# Altium schematic symbol library SCH - MCU - ATSAM - MICROCHIP ATSAMS70Q20B-CFN UFBGA144.SchLib: 1 symbol
Pins are listed as number, name and electrical type; pins without a type are passive.

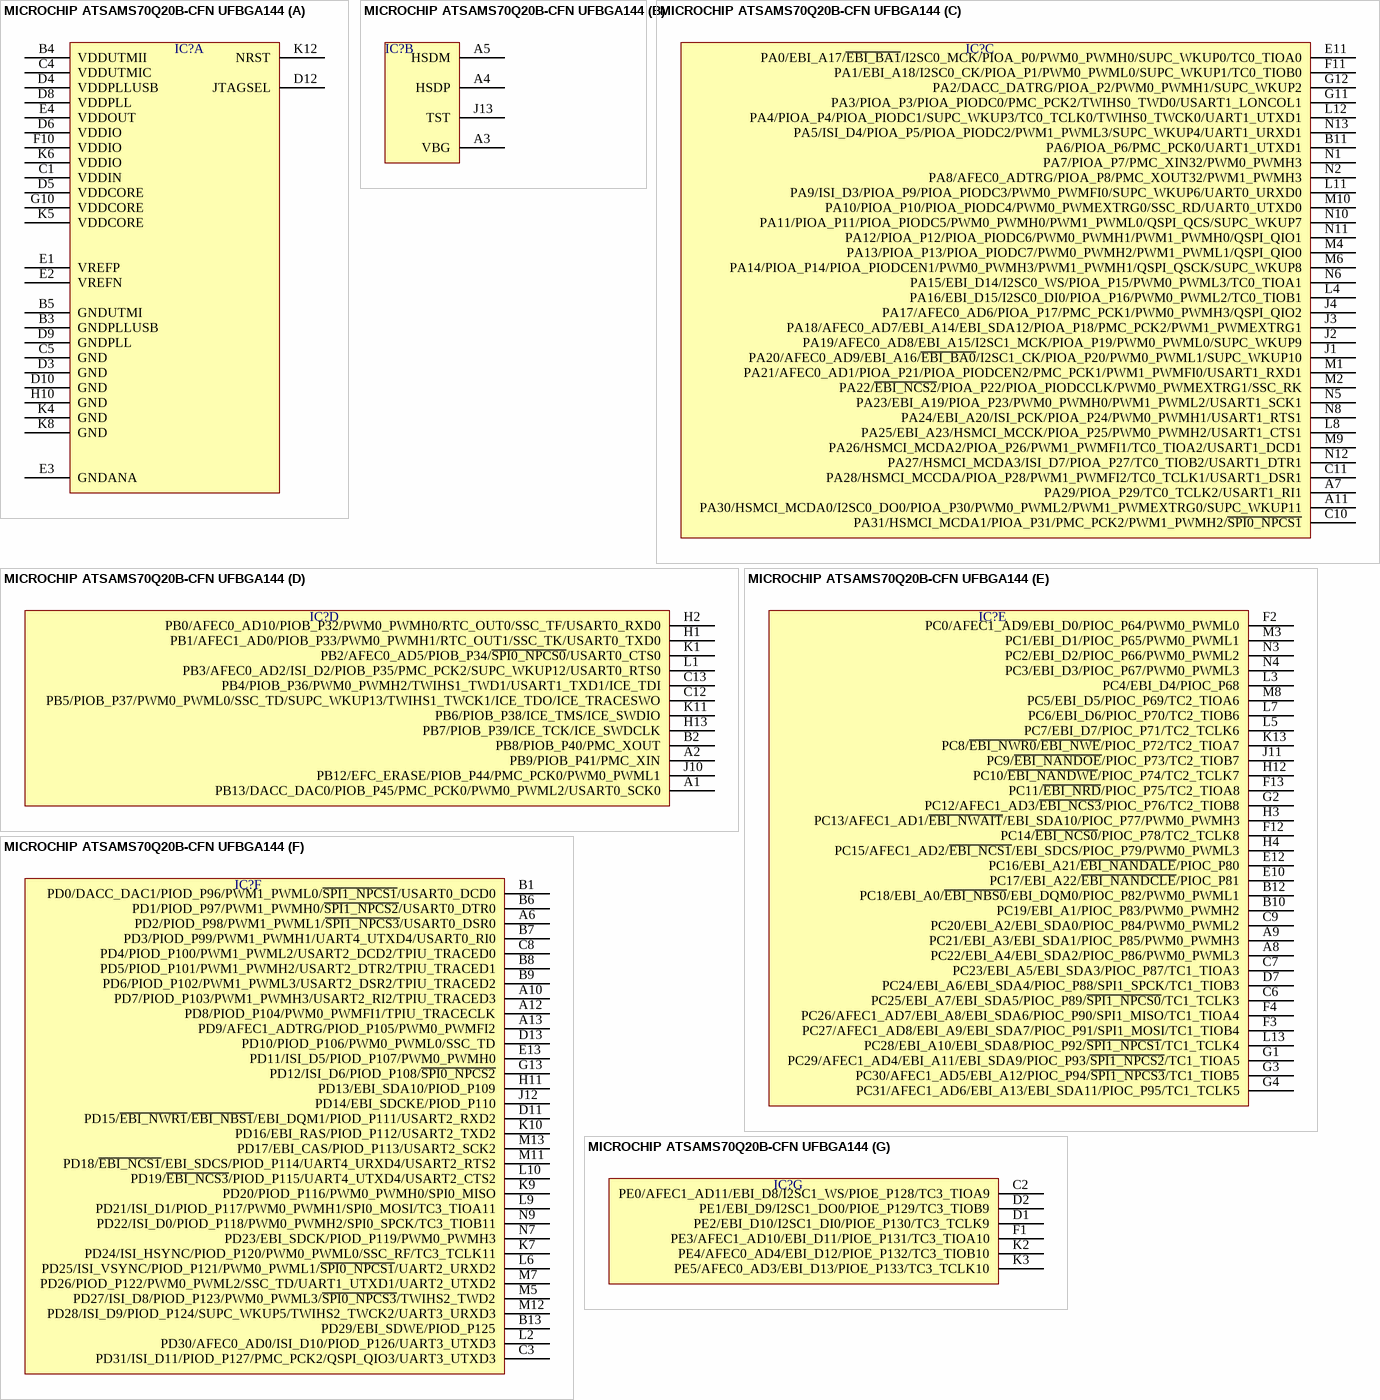
[diagram p0: symbol MICROCHIP ATSAMS70Q20B-CFN UFBGA144]

## MICROCHIP ATSAMS70Q20B-CFN UFBGA144
designator IC?  (value not drawn)
part A pins: B3 GNDPLLUSB, B4 VDDUTMII, B5 GNDUTMI, C1 VDDIN, C4 VDDUTMIC, C5 GND, D3 GND, D4 VDDPLLUSB, D5 VDDCORE, D6 VDDIO, D8 VDDPLL, D9 GNDPLL, D10 GND, D12 JTAGSEL, E1 VREFP, E2 VREFN, E3 GNDANA, E4 VDDOUT, F10 VDDIO, G10 VDDCORE, H10 GND, K4 GND, K5 VDDCORE, K6 VDDIO, K8 GND, K12 NRST
part B pins: A3 VBG, A4 HSDP, A5 HSDM, J13 TST
part C pins: A7 PA29/PIOA_P29/TC0_TCLK2/USART1_RI1, A11 PA30/HSMCI_MCDA0/I2SC0_DO0/PIOA_P30/PWM0_PWML2/PWM1_PWMEXTRG0/SUPC_WKUP11, B11 PA6/PIOA_P6/PMC_PCK0/UART1_UTXD1, C10 PA31/HSMCI_MCDA1/PIOA_P31/PMC_PCK2/PWM1_PWMH2/~{SPI0_NPCS1}, C11 PA28/HSMCI_MCCDA/PIOA_P28/PWM1_PWMFI2/TC0_TCLK1/USART1_DSR1, E11 PA0/EBI_A17/~{EBI_BA1}/I2SC0_MCK/PIOA_P0/PWM0_PWMH0/SUPC_WKUP0/TC0_TIOA0, F11 PA1/EBI_A18/I2SC0_CK/PIOA_P1/PWM0_PWML0/SUPC_WKUP1/TC0_TIOB0, G11 PA3/PIOA_P3/PIOA_PIODC0/PMC_PCK2/TWIHS0_TWD0/USART1_LONCOL1, G12 PA2/DACC_DATRG/PIOA_P2/PWM0_PWMH1/SUPC_WKUP2, J1 PA20/AFEC0_AD9/EBI_A16/~{EBI_BA0}/I2SC1_CK/PIOA_P20/PWM0_PWML1/SUPC_WKUP10, J2 PA19/AFEC0_AD8/EBI_A15/I2SC1_MCK/PIOA_P19/PWM0_PWML0/SUPC_WKUP9, J3 PA18/AFEC0_AD7/EBI_A14/EBI_SDA12/PIOA_P18/PMC_PCK2/PWM1_PWMEXTRG1, J4 PA17/AFEC0_AD6/PIOA_P17/PMC_PCK1/PWM0_PWMH3/QSPI_QIO2, L4 PA16/EBI_D15/I2SC0_DI0/PIOA_P16/PWM0_PWML2/TC0_TIOB1, L8 PA25/EBI_A23/HSMCI_MCCK/PIOA_P25/PWM0_PWMH2/USART1_CTS1, L11 PA9/ISI_D3/PIOA_P9/PIOA_PIODC3/PWM0_PWMFI0/SUPC_WKUP6/UART0_URXD0, L12 PA4/PIOA_P4/PIOA_PIODC1/SUPC_WKUP3/TC0_TCLK0/TWIHS0_TWCK0/UART1_UTXD1, M1 PA21/AFEC0_AD1/PIOA_P21/PIOA_PIODCEN2/PMC_PCK1/PWM1_PWMFI0/USART1_RXD1, M2 PA22/~{EBI_NCS2}/PIOA_P22/PIOA_PIODCCLK/PWM0_PWMEXTRG1/SSC_RK, M4 PA13/PIOA_P13/PIOA_PIODC7/PWM0_PWMH2/PWM1_PWML1/QSPI_QIO0, M6 PA14/PIOA_P14/PIOA_PIODCEN1/PWM0_PWMH3/PWM1_PWMH1/QSPI_QSCK/SUPC_WKUP8, M9 PA26/HSMCI_MCDA2/PIOA_P26/PWM1_PWMFI1/TC0_TIOA2/USART1_DCD1, M10 PA10/PIOA_P10/PIOA_PIODC4/PWM0_PWMEXTRG0/SSC_RD/UART0_UTXD0, N1 PA7/PIOA_P7/PMC_XIN32/PWM0_PWMH3, N2 PA8/AFEC0_ADTRG/PIOA_P8/PMC_XOUT32/PWM1_PWMH3, N5 PA23/EBI_A19/PIOA_P23/PWM0_PWMH0/PWM1_PWML2/USART1_SCK1, N6 PA15/EBI_D14/I2SC0_WS/PIOA_P15/PWM0_PWML3/TC0_TIOA1, N8 PA24/EBI_A20/ISI_PCK/PIOA_P24/PWM0_PWMH1/USART1_RTS1, N10 PA11/PIOA_P11/PIOA_PIODC5/PWM0_PWMH0/PWM1_PWML0/QSPI_QCS/SUPC_WKUP7, N11 PA12/PIOA_P12/PIOA_PIODC6/PWM0_PWMH1/PWM1_PWMH0/QSPI_QIO1, N12 PA27/HSMCI_MCDA3/ISI_D7/PIOA_P27/TC0_TIOB2/USART1_DTR1, N13 PA5/ISI_D4/PIOA_P5/PIOA_PIODC2/PWM1_PWML3/SUPC_WKUP4/UART1_URXD1
part D pins: A1 PB13/DACC_DAC0/PIOB_P45/PMC_PCK0/PWM0_PWML2/USART0_SCK0, A2 PB9/PIOB_P41/PMC_XIN, B2 PB8/PIOB_P40/PMC_XOUT, C12 PB5/PIOB_P37/PWM0_PWML0/SSC_TD/SUPC_WKUP13/TWIHS1_TWCK1/ICE_TDO/ICE_TRACESWO, C13 PB4/PIOB_P36/PWM0_PWMH2/TWIHS1_TWD1/USART1_TXD1/ICE_TDI, H1 PB1/AFEC1_AD0/PIOB_P33/PWM0_PWMH1/RTC_OUT1/SSC_TK/USART0_TXD0, H2 PB0/AFEC0_AD10/PIOB_P32/PWM0_PWMH0/RTC_OUT0/SSC_TF/USART0_RXD0, H13 PB7/PIOB_P39/ICE_TCK/ICE_SWDCLK, J10 PB12/EFC_ERASE/PIOB_P44/PMC_PCK0/PWM0_PWML1, K1 PB2/AFEC0_AD5/PIOB_P34/~{SPI0_NPCS0}/USART0_CTS0, K11 PB6/PIOB_P38/ICE_TMS/ICE_SWDIO, L1 PB3/AFEC0_AD2/ISI_D2/PIOB_P35/PMC_PCK2/SUPC_WKUP12/USART0_RTS0
part E pins: A8 PC22/EBI_A4/EBI_SDA2/PIOC_P86/PWM0_PWML3, A9 PC21/EBI_A3/EBI_SDA1/PIOC_P85/PWM0_PWMH3, B10 PC19/EBI_A1/PIOC_P83/PWM0_PWMH2, B12 PC18/EBI_A0/~{EBI_NBS0}/EBI_DQM0/PIOC_P82/PWM0_PWML1, C6 PC25/EBI_A7/EBI_SDA5/PIOC_P89/~{SPI1_NPCS0}/TC1_TCLK3, C7 PC23/EBI_A5/EBI_SDA3/PIOC_P87/TC1_TIOA3, C9 PC20/EBI_A2/EBI_SDA0/PIOC_P84/PWM0_PWML2, D7 PC24/EBI_A6/EBI_SDA4/PIOC_P88/SPI1_SPCK/TC1_TIOB3, E10 PC17/EBI_A22/~{EBI_NANDCLE}/PIOC_P81, E12 PC16/EBI_A21/~{EBI_NANDALE}/PIOC_P80, F2 PC0/AFEC1_AD9/EBI_D0/PIOC_P64/PWM0_PWML0, F3 PC27/AFEC1_AD8/EBI_A9/EBI_SDA7/PIOC_P91/SPI1_MOSI/TC1_TIOB4, F4 PC26/AFEC1_AD7/EBI_A8/EBI_SDA6/PIOC_P90/SPI1_MISO/TC1_TIOA4, F12 PC14/~{EBI_NCS0}/PIOC_P78/TC2_TCLK8, F13 PC11/~{EBI_NRD}/PIOC_P75/TC2_TIOA8, G1 PC29/AFEC1_AD4/EBI_A11/EBI_SDA9/PIOC_P93/~{SPI1_NPCS2}/TC1_TIOA5, G2 PC12/AFEC1_AD3/~{EBI_NCS3}/PIOC_P76/TC2_TIOB8, G3 PC30/AFEC1_AD5/EBI_A12/PIOC_P94/~{SPI1_NPCS3}/TC1_TIOB5, G4 PC31/AFEC1_AD6/EBI_A13/EBI_SDA11/PIOC_P95/TC1_TCLK5, H3 PC13/AFEC1_AD1/~{EBI_NWAIT}/EBI_SDA10/PIOC_P77/PWM0_PWMH3, H4 PC15/AFEC1_AD2/~{EBI_NCS1}/EBI_SDCS/PIOC_P79/PWM0_PWML3, H12 PC10/~{EBI_NANDWE}/PIOC_P74/TC2_TCLK7, J11 PC9/~{EBI_NANDOE}/PIOC_P73/TC2_TIOB7, K13 PC8/~{EBI_NWR0}/~{EBI_NWE}/PIOC_P72/TC2_TIOA7, L3 PC4/EBI_D4/PIOC_P68, L5 PC7/EBI_D7/PIOC_P71/TC2_TCLK6, L7 PC6/EBI_D6/PIOC_P70/TC2_TIOB6, L13 PC28/EBI_A10/EBI_SDA8/PIOC_P92/~{SPI1_NPCS1}/TC1_TCLK4, M3 PC1/EBI_D1/PIOC_P65/PWM0_PWML1, M8 PC5/EBI_D5/PIOC_P69/TC2_TIOA6, N3 PC2/EBI_D2/PIOC_P66/PWM0_PWML2, N4 PC3/EBI_D3/PIOC_P67/PWM0_PWML3
part F pins: A6 PD2/PIOD_P98/PWM1_PWML1/~{SPI1_NPCS3}/USART0_DSR0, A10 PD7/PIOD_P103/PWM1_PWMH3/USART2_RI2/TPIU_TRACED3, A12 PD8/PIOD_P104/PWM0_PWMFI1/TPIU_TRACECLK, A13 PD9/AFEC1_ADTRG/PIOD_P105/PWM0_PWMFI2, B1 PD0/DACC_DAC1/PIOD_P96/PWM1_PWML0/~{SPI1_NPCS1}/USART0_DCD0, B6 PD1/PIOD_P97/PWM1_PWMH0/~{SPI1_NPCS2}/USART0_DTR0, B7 PD3/PIOD_P99/PWM1_PWMH1/UART4_UTXD4/USART0_RI0, B8 PD5/PIOD_P101/PWM1_PWMH2/USART2_DTR2/TPIU_TRACED1, B9 PD6/PIOD_P102/PWM1_PWML3/USART2_DSR2/TPIU_TRACED2, B13 PD29/EBI_SDWE/PIOD_P125, C3 PD31/ISI_D11/PIOD_P127/PMC_PCK2/QSPI_QIO3/UART3_UTXD3, C8 PD4/PIOD_P100/PWM1_PWML2/USART2_DCD2/TPIU_TRACED0, D11 PD15/~{EBI_NWR1}/~{EBI_NBS1}/EBI_DQM1/PIOD_P111/USART2_RXD2, D13 PD10/PIOD_P106/PWM0_PWML0/SSC_TD, E13 PD11/ISI_D5/PIOD_P107/PWM0_PWMH0, G13 PD12/ISI_D6/PIOD_P108/~{SPI0_NPCS2}, H11 PD13/EBI_SDA10/PIOD_P109, J12 PD14/EBI_SDCKE/PIOD_P110, K7 PD24/ISI_HSYNC/PIOD_P120/PWM0_PWML0/SSC_RF/TC3_TCLK11, K9 PD20/PIOD_P116/PWM0_PWMH0/SPI0_MISO, K10 PD16/EBI_RAS/PIOD_P112/USART2_TXD2, L2 PD30/AFEC0_AD0/ISI_D10/PIOD_P126/UART3_UTXD3, L6 PD25/ISI_VSYNC/PIOD_P121/PWM0_PWML1/~{SPI0_NPCS1}/UART2_URXD2, L9 PD21/ISI_D1/PIOD_P117/PWM0_PWMH1/SPI0_MOSI/TC3_TIOA11, L10 PD19/~{EBI_NCS3}/PIOD_P115/UART4_UTXD4/USART2_CTS2, M5 PD27/ISI_D8/PIOD_P123/PWM0_PWML3/~{SPI0_NPCS3}/TWIHS2_TWD2, M7 PD26/PIOD_P122/PWM0_PWML2/SSC_TD/UART1_UTXD1/UART2_UTXD2, M11 PD18/~{EBI_NCS1}/EBI_SDCS/PIOD_P114/UART4_URXD4/USART2_RTS2, M12 PD28/ISI_D9/PIOD_P124/SUPC_WKUP5/TWIHS2_TWCK2/UART3_URXD3, M13 PD17/EBI_CAS/PIOD_P113/USART2_SCK2, N7 PD23/EBI_SDCK/PIOD_P119/PWM0_PWMH3, N9 PD22/ISI_D0/PIOD_P118/PWM0_PWMH2/SPI0_SPCK/TC3_TIOB11
part G pins: C2 PE0/AFEC1_AD11/EBI_D8/I2SC1_WS/PIOE_P128/TC3_TIOA9, D1 PE2/EBI_D10/I2SC1_DI0/PIOE_P130/TC3_TCLK9, D2 PE1/EBI_D9/I2SC1_DO0/PIOE_P129/TC3_TIOB9, F1 PE3/AFEC1_AD10/EBI_D11/PIOE_P131/TC3_TIOA10, K2 PE4/AFEC0_AD4/EBI_D12/PIOE_P132/TC3_TIOB10, K3 PE5/AFEC0_AD3/EBI_D13/PIOE_P133/TC3_TCLK10